# EAGLE library part LIS3DH (library funkfinger)
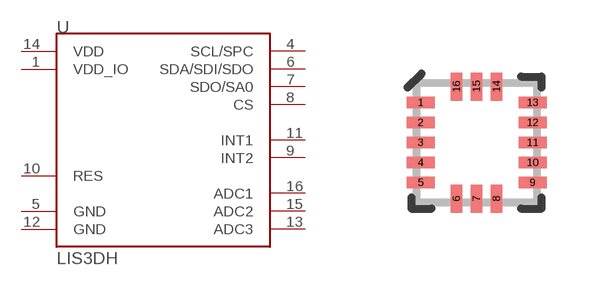
[diagram p0: symbol with the pads of LGA16; footprint LGA16]

Designator prefix -

## LIS3DH  [LGA16]
1  VDD_IO  pwr
4  SCL/SPC
5  GND  sup
6  SDA/SDI/SDO
7  SDO/SA0
8  CS
9  INT2
10  RES
11  INT1
12  GND  sup
13  ADC3
14  VDD  pwr
15  ADC2
16  ADC1

## Footprint LGA16 (pad centres in mm)
smd 0.7 x 0.28: 1 -1.4,1; 2 -1.4,0.5; 3 -1.4,0; 4 -1.4,-0.5; 5 -1.4,-1; 9 1.4,-1; 10 1.4,-0.5; 11 1.4,0; 12 1.4,0.5; 13 1.4,1
smd 0.28 x 0.7: 6 -0.5,-1.4; 7 0,-1.4; 8 0.5,-1.4; 14 0.5,1.4; 15 0,1.4; 16 -0.5,1.4